# Altium footprint library 691 244 610 0xx.PcbLib: 3 footprints
Each footprint in its own frame and in the unit in brackets; x right, y up, seen from the top. Pads: shape width x height; smd on the part's side, far side on the other; paste and mask are expansions set on the pad; w line width, h text height; cw(c..) or ccw(c..) is an arc to the next point about the centre after c.
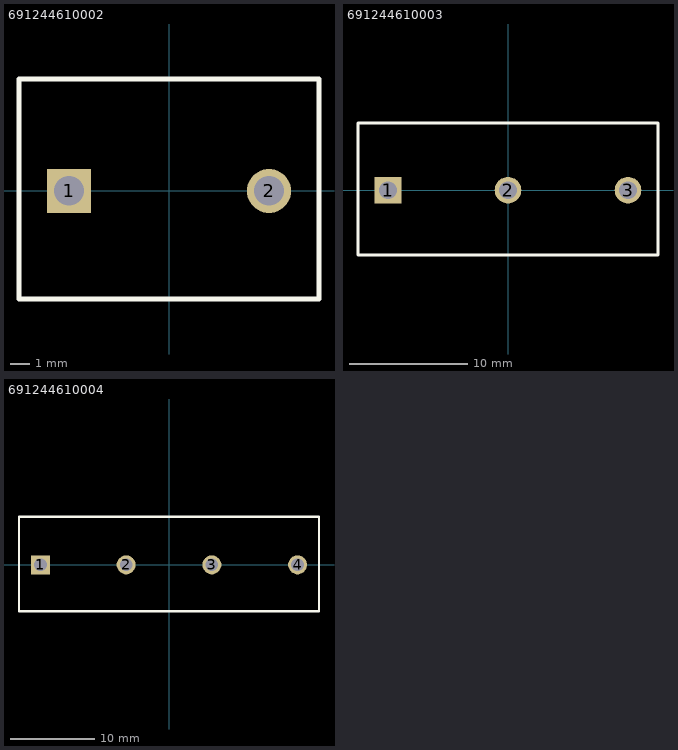
[diagram p0: the footprints below, top view; thin cyan lines are the x and y axes]

## 691244610002 [mm] "Serie 2446 - 10.16 mm _ 2 pins"
height 18
pads (2):
  rect 2.25x2.25 hole 1.5: 1(-5.08,0)
  round 2.25 hole 1.5: 2(5.08,0)
Top Overlay:
  lines w0.254: -7.62,-5.5 -7.62,5.7 7.62,5.7 7.62,-5.5 -7.62,-5.5
3D body: height 18.1, standoff -3.9, extent -7.52,-5.4 7.72,5.8

## 691244610003 [mm] "Serie 2446 - 10.16 mm _ 3 pins"
height 18
pads (3):
  rect 2.25x2.25 hole 1.5: 1(-10.16,0)
  round 2.25 hole 1.5: 2(0,0) 3(10.16,0)
Top Overlay:
  lines w0.254: -12.7,-5.5 -12.7,5.7 12.7,5.7 12.7,-5.5 -12.7,-5.5
3D body: height 18.1, standoff -3.9, extent -12.68,-5.49 12.72,5.71

## 691244610004 [mm] "Serie 2446 - 10.16 mm _ 4 pins"
height 18
pads (4):
  rect 2.25x2.25 hole 1.5: 1(-15.24,0)
  round 2.25 hole 1.5: 2(-5.08,0) 3(5.08,0) 4(15.24,0)
Top Overlay:
  lines w0.254: -17.78,-5.5 17.78,-5.5 17.78,5.7 -17.78,5.7 -17.78,-5.5